# Altium schematic symbol library EASY-EAI-Nano-TB V1.01_1.SCHLIB: 123 symbols
Pins are listed as number, name and electrical type; pins without a type are passive.

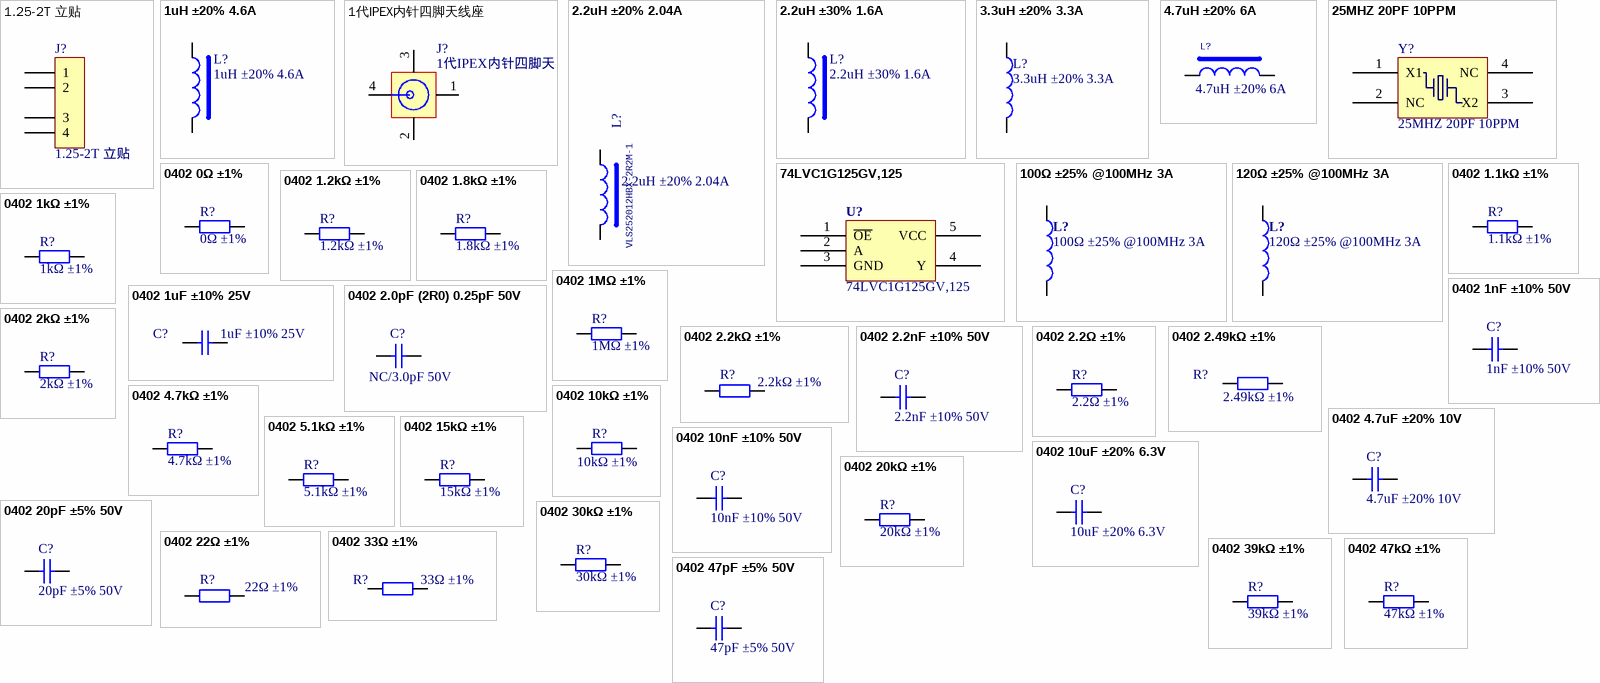
[diagram p0: symbols 1.25-2T 立贴 to 0402 47pF ±5% 50V]

## 1.25-2T 立贴
designator J?, comment 描述: 1.25-2T 立贴  (hidden comment: AFC12-S02CCA-00)
SPZL000112; 名称: 线对板/线对线连接器; 封装: SMD; 厂商: JS(钜硕电子); 工作温度: -20~85℃; 贴片和直插: SMD; SuppliersPartNumber: C466544; 型号: AFC12-S02CCA-00; 商品编号: SPZL000112
footprint 1.25-2T_SMD_L
pins: 1, 2, 3, 4

## 1uH ±20% 4.6A
designator L?, comment 描述: 1uH ±20% 4.6A  (hidden comment: WPN252010U1R0MT)
SPZL000872; 名称: 电感; 厂商: Sunlord(顺络); 封装: 1008; 贴片和直插: SMD; 工作温度: -40~125℃; 型号: WPN252010U1R0MT; SuppliersPartNumber: C279952; 商品编号: SPZL000872
footprint 1008
pins: 1, 2

## 1代IPEX内针四脚天线座
designator J?, comment 描述: 1代IPEX内针四脚天线座  (hidden comment: KH-IPEX-K501-29)
SPZL001156; 名称: RF连接器; 贴片和直插: SMD; 厂商: kinghelm(金航标); 封装: SMD; SuppliersPartNumber: C411563; 型号: KH-IPEX-K501-29; 商品编号: SPZL001156; 工作温度: *
footprint ANT-SMD_KH-IPEX-K501-29
pins: 1, 2, 3, 4

## 2.2uH ±20% 2.04A
designator L?, comment VLS252012HBX-2R2M-1  描述: 2.2uH ±20% 2.04A
SPZL000205; 名称: 电感; 厂商: TDK; 封装: 1008; 贴片和直插: SMD; 工作温度: -40~105℃; 型号: VLS252012HBX-2R2M-1; SuppliersPartNumber: C88535; 商品编号: SPZL000205
footprint IND_252012
pins: 1, 2

## 2.2uH ±30% 1.6A
designator L?, comment 描述: 2.2uH ±30% 1.6A  (hidden comment: SWPA3015S2R2NT)
SPZL000721; 名称: 电感; 厂商: Sunlord(顺络); 封装: SMD; 工作温度: -40~125℃; 型号: SWPA3015S2R2NT; SuppliersPartNumber: C19734; 贴片和直插: SMD; 商品编号: SPZL000721
footprint IND-SMD_L3.0-W3.0
pins: 1, 2

## 3.3uH ±20% 3.3A
designator L?, comment 描述: 3.3uH ±20% 3.3A  (hidden comment: SMNR4030-3R3MT)
SPZL000206; 名称: 电感; 封装: 4.0*4.0*3.0mm; 贴片和直插: SMD; 厂商: SXN(顺翔诺); 工作温度: -40~125℃; SuppliersPartNumber: C135269; 型号: SMNR4030-3R3MT; 商品编号: SPZL000206
footprint IND-4.0*4.0*3.0
pins: 1, 2
2 alternate drawings of the same symbol

## 4.7uH ±20% 6A
designator L?, comment 描述: 4.7uH ±20% 6A  (hidden comment: MWSA0603S-4R7MT)
SPZL001133; 厂商: Sunlord(顺络); 贴片和直插: SMD; 名称: 电感; 封装: SMD,7x6.6mm; 工作温度: -40~125℃; SuppliersPartNumber: C408447; 型号: MWSA0603S-4R7MT; 商品编号: SPZL001133
footprint IND-SMD_L7.0-W6.6 (JLC)
pins: 1, 2

## 25MHZ 20PF 10PPM
designator Y?, comment 描述: 25MHZ 20PF 10PPM  (hidden comment: X322525MSB4SI)
SPZL000475; 封装: SMD3225-4P; 厂商: YXC扬兴科技; 贴片和直插: SMD; 名称: 无源晶振; 工作温度: -40~85℃; SuppliersPartNumber: C13740; 型号: X322525MSB4SI; 商品编号: SPZL000475
footprint SMD-3225_4P
pins: 1 X1, 2 NC, 3 X2, 4 NC

## 74LVC1G125GV,125
designator U?
SPZL000608; 名称: IC; 封装: SOT-753; 厂商: Nexperia(安世); 贴片和直插: SMD; 描述: 缓冲器; 工作温度: -40~85℃; SuppliersPartNumber: C12518; 商品编号: SPZL000608; 型号: 74LVC1G125GV,125
footprint SOT-23-5
pins: 1 ~{OE}, 2 A, 3 GND (power), 4 Y, 5 VCC
2 alternate drawings of the same symbol

## 100Ω ±25% @100MHz 3A
designator L?, comment 描述: 100Ω ±25% @100MHz 3A  (hidden comment: MPZ1608S101ATAH0)
SPZL000753; 名称: 磁珠; 封装: 0603; 厂商: TDK; 贴片和直插: SMD; 工作温度: -40~85℃; SuppliersPartNumber: C107332; 型号: MPZ1608S101ATAH0; 商品编号: SPZL000753
footprint 0603_R
pins: 1, 2
2 alternate drawings of the same symbol

## 120Ω ±25% @100MHz 3A
designator L?, comment 描述: 120Ω ±25% @100MHz 3A  (hidden comment: BLM18KG121TN1D)
SPZL000842; 名称: 磁珠; 封装: 0603; 厂商: muRata(村田); 贴片和直插: SMD; 工作温度: -40~85℃; SuppliersPartNumber: C85831; 型号: BLM18KG121TN1D; 商品编号: SPZL000842
footprint 0603_R
pins: 1, 2
2 alternate drawings of the same symbol

## 0402 0Ω ±1%
designator R?, comment 描述: 0Ω ±1%  (hidden comment: 0402WGF0000TCE)
SPZL000276; 封装: 0402; 厂商: UNI-ROYAL(厚声); 贴片和直插: SMD; 名称: 电阻; 工作温度: -55~125℃; SuppliersPartNumber: C17168; 型号: 0402WGF0000TCE; 商品编号: SPZL000276
footprint 0402_R
pins: 1, 2

## 0402 1.1kΩ ±1%
designator R?, comment 描述: 1.1kΩ ±1%  (hidden comment: AC0402FR-071K1L)
SPZL000324; 封装: 0402; 厂商: YAGEO(国巨); 贴片和直插: SMD; 名称: 电阻; 工作温度: -55~125℃; SuppliersPartNumber: C226844; 型号: AC0402FR-071K1L; 商品编号: SPZL000324
footprint 0402_R
pins: 1, 2

## 0402 1.2kΩ ±1%
designator R?, comment 描述: 1.2kΩ ±1%  (hidden comment: AC0402FR-071K2L)
SPZL000328; 封装: 0402; 厂商: YAGEO(国巨); 贴片和直插: SMD; 名称: 电阻; 工作温度: -55~125℃; SuppliersPartNumber: C144793; 型号: AC0402FR-071K2L; 商品编号: SPZL000328
footprint 0402_R
pins: 1, 2

## 0402 1.8kΩ ±1%
designator R?, comment 描述: 1.8kΩ ±1%  (hidden comment: 0402WGF1801TCE)
SPZL000899; 封装: 0402; 厂商: UNI-ROYAL(厚声); 贴片和直插: SMD; 名称: 电阻; 工作温度: -55~155℃; SuppliersPartNumber: C25871; 型号: 0402WGF1801TCE; 商品编号: SPZL000899
footprint 0402_R
pins: 1, 2

## 0402 1kΩ ±1%
designator R?, comment 描述: 1kΩ ±1%  (hidden comment: 0402WGF1001TCE)
SPZL000275; 封装: 0402; 厂商: UNI-ROYAL(厚声); 贴片和直插: SMD; 名称: 电阻; 工作温度: -55~125℃; SuppliersPartNumber: C11702; 型号: 0402WGF1001TCE; 商品编号: SPZL000275
footprint 0402_R
pins: 1, 2

## 0402 1MΩ ±1%
designator R?, comment 描述: 1MΩ ±1%  (hidden comment: RC-02W1004FT)
SPZL000301; 封装: 0402; 厂商: FH(风华); 贴片和直插: SMD; 名称: 电阻; 工作温度: -55~125℃; SuppliersPartNumber: C310185; 型号: RC-02W1004FT; 商品编号: SPZL000301
footprint 0402_R
pins: 1, 2

## 0402 1nF ±10% 50V
designator C?, comment 描述: 1nF ±10% 50V  (hidden comment: 0402B102K500NT)
SPZL000264; 名称: 贴片电容; 厂商: FH(风华); 封装: 0402; 工作温度: -55~125℃; 贴片和直插: SMD; 型号: 0402B102K500NT; SuppliersPartNumber: C1523; 商品编号: SPZL000264
footprint 0402_C
pins: 1, 2

## 0402 1uF ±10% 25V
designator C?, comment 描述: 1uF ±10% 25V  (hidden comment: CL05A105KA5NQNC)
SPZL000337; 名称: 贴片电容; 厂商: SAMSUNG(三星); 封装: 0402; 工作温度: -55~85℃; 贴片和直插: SMD; 型号: CL05A105KA5NQNC; SuppliersPartNumber: C52923; 商品编号: SPZL000337
footprint 0402_C
pins: 1, 2

## 0402 2.0pF (2R0) 0.25pF 50V
designator C?, comment NC/3.0pF 50V  (no BOM)
贴片电容; ComponentLink1Description: 供应商链接; ComponentLink1URL: http://www.szlcsc.com/product/details_1910.html; Package: 0402; Supplier: LC
footprint 0402_C
pins: 1, 2

## 0402 2.2kΩ ±1%
designator R?, comment 描述: 2.2kΩ ±1%  (hidden comment: AC0402FR-072K2L)
SPZL000307; 封装: 0402; 厂商: YAGEO(国巨); 贴片和直插: SMD; 名称: 电阻; 工作温度: -55~155℃; SuppliersPartNumber: C144773; 型号: AC0402FR-072K2L; 商品编号: SPZL000307
footprint 0402_R
pins: 1, 2

## 0402 2.2nF ±10% 50V
designator C?, comment 描述: 2.2nF ±10% 50V  (hidden comment: 0402B222K500NT)
SPZL000399; 名称: 贴片电容; 厂商: FH(风华); 封装: 0402; 工作温度: -55~125℃; 贴片和直插: SMD; 型号: 0402B222K500NT; SuppliersPartNumber: C1531; 商品编号: SPZL000399
footprint 0402_C
pins: 1, 2

## 0402 2.2Ω ±1%
designator R?, comment 描述: 2.2Ω ±1%  (hidden comment: 0402WGF220KTCE)
SPZL000327; 封装: 0402; 厂商: UNI-ROYAL(厚声); 贴片和直插: SMD; 名称: 电阻; 工作温度: -55~155℃; SuppliersPartNumber: C25101; 型号: 0402WGF220KTCE; 商品编号: SPZL000327
footprint 0402_R
pins: 1, 2

## 0402 2.49kΩ ±1%
designator R?, comment 描述: 2.49kΩ ±1%  (hidden comment: AC0402FR-072K49L)
SPZL000354; 封装: 0402; 厂商: YAGEO(国巨); 贴片和直插: SMD; 名称: 电阻; 工作温度: -55~155℃; SuppliersPartNumber: C226959; 型号: AC0402FR-072K49L; 商品编号: SPZL000354
footprint 0402_R
pins: 1, 2

## 0402 2kΩ ±1%
designator R?, comment 描述: 2kΩ ±1%  (hidden comment: NC/0402WGF2001TCE)  (no BOM)
封装: 0402; 厂商: UNI-ROYAL(厚声); 贴片和直插: SMD; 名称: 电阻; 工作温度: -55~155℃; SuppliersPartNumber: C4109; 型号: 0402WGF2001TCE
footprint 0402_R
pins: 1, 2

## 0402 4.7kΩ ±1%
designator R?, comment 描述: 4.7kΩ ±1%  (hidden comment: 0402WGF4701TCE)
SPZL000280; 封装: 0402; 厂商: UNI-ROYAL(厚声); 贴片和直插: SMD; 名称: 电阻; 工作温度: -55~155℃; SuppliersPartNumber: C25900; 型号: 0402WGF4701TCE; 商品编号: SPZL000280
footprint 0402_R
pins: 1, 2

## 0402 4.7uF ±20% 10V
designator C?, comment 描述: 4.7uF ±20% 10V  (hidden comment: CL05A475MP5NRNC)
SPZL000339; 名称: 贴片电容; 厂商: SAMSUNG(三星); 封装: 0402; 工作温度: -55~85℃; 贴片和直插: SMD; 型号: CL05A475MP5NRNC; SuppliersPartNumber: C23733; 商品编号: SPZL000339
footprint 0402_C
pins: 1, 2

## 0402 5.1kΩ ±1%
designator R?, comment 描述: 5.1kΩ ±1%  (hidden comment: 0402WGF5101TCE)
SPZL000270; 封装: 0402; 厂商: UNI-ROYAL(厚声); 贴片和直插: SMD; 名称: 电阻; 工作温度: -55~155℃; SuppliersPartNumber: C25905; 型号: 0402WGF5101TCE; 商品编号: SPZL000270
footprint 0402_R
pins: 1, 2

## 0402 10kΩ ±1%
designator R?, comment 描述: 10kΩ ±1%  (hidden comment: 0402WGF1002TCE)
SPZL000271; 封装: 0402; 厂商: UNI-ROYAL(厚声); 贴片和直插: SMD; 名称: 电阻; 工作温度: -55~155℃; SuppliersPartNumber: C25744; 型号: 0402WGF1002TCE; 商品编号: SPZL000271
footprint 0402_R
pins: 1, 2

## 0402 10nF ±10% 50V
designator C?, comment 描述: 10nF ±10% 50V  (hidden comment: CL05B103KB5NNNC)
SPZL000342; 名称: 贴片电容; 厂商: SAMSUNG(三星); 封装: 0402; 工作温度: -55~125℃; 贴片和直插: SMD; 型号: CL05B103KB5NNNC; SuppliersPartNumber: C15195; 商品编号: SPZL000342
footprint 0402_C
pins: 1, 2

## 0402 10uF ±20% 6.3V
designator C?, comment 描述: 10uF ±20% 6.3V  (hidden comment: CL05A106MQ5NUNC)
SPZL000269; 名称: 贴片电容; 厂商: SAMSUNG(三星); 封装: 0402; 工作温度: -55~85℃; 贴片和直插: SMD; 型号: CL05A106MQ5NUNC; SuppliersPartNumber: C15525; 商品编号: SPZL000269
footprint 0402_C
pins: 1, 2

## 0402 15kΩ ±1%
designator R?, comment 描述: 15kΩ ±1%  (hidden comment: 0402WGF1502TCE)
SPZL000330; 封装: 0402; 厂商: UNI-ROYAL(厚声); 贴片和直插: SMD; 名称: 电阻; 工作温度: -55~155℃; SuppliersPartNumber: C25756; 型号: 0402WGF1502TCE; 商品编号: SPZL000330
footprint 0402_R
pins: 1, 2

## 0402 20kΩ ±1%
designator R?, comment 描述: 20kΩ ±1%  (hidden comment: 0402WGF2002TCE)
SPZL000349; 封装: 0402; 厂商: UNI-ROYAL(厚声); 贴片和直插: SMD; 名称: 电阻; 工作温度: -55~155℃; SuppliersPartNumber: C25765; 型号: 0402WGF2002TCE; 商品编号: SPZL000349
footprint 0402_R
pins: 1, 2

## 0402 20pF ±5% 50V
designator C?, comment 描述: 20pF ±5% 50V  (hidden comment: 0402CG200J500NT)
SPZL000398; 名称: 贴片电容; 厂商: FH(风华); 封装: 0402; 工作温度: -55~125℃; 贴片和直插: SMD; 型号: 0402CG200J500NT; SuppliersPartNumber: C1554; 商品编号: SPZL000398
footprint 0402_C
pins: 1, 2

## 0402 22Ω ±1%
designator R?, comment 描述: 22Ω ±1%  (hidden comment: 0402WGF220JTCE)
SPZL000279; 封装: 0402; 厂商: UNI-ROYAL(厚声); 贴片和直插: SMD; 名称: 电阻; 工作温度: -55~155℃; SuppliersPartNumber: C25092; 型号: 0402WGF220JTCE; 商品编号: SPZL000279
footprint 0402_R
pins: 1, 2

## 0402 30kΩ ±1%
designator R?, comment 描述: 30kΩ ±1%  (hidden comment: NQ02WGF3002TCE)
SPZL000323; 封装: 0402; 厂商: UNI-ROYAL(厚声); 贴片和直插: SMD; 名称: 电阻; 工作温度: -55~155℃; SuppliersPartNumber: C965267; 型号: NQ02WGF3002TCE; 商品编号: SPZL000323
footprint 0402_R
pins: 1, 2

## 0402 33Ω ±1%
designator R?, comment 描述: 33Ω ±1%  (hidden comment: RC-02W33R0FT)
SPZL000302; 封装: 0402; 厂商: FH(风华); 贴片和直插: SMD; 名称: 电阻; 工作温度: -55~155℃; SuppliersPartNumber: C140161; 型号: RC-02W33R0FT; 商品编号: SPZL000302
footprint 0402_R
pins: 1, 2

## 0402 39kΩ ±1%
designator R?, comment 描述: 39kΩ ±1%  (hidden comment: RC0402FR-0739KL)
SPZL001271; 封装: 0402; 厂商: YAGEO(国巨); 贴片和直插: SMD; 名称: 电阻; 工作温度: -55~155℃; SuppliersPartNumber: C137995; 型号: RC0402FR-0739KL; 商品编号: SPZL001271
footprint 0402_R
pins: 1, 2

## 0402 47kΩ ±1%
designator R?, comment 描述: 47kΩ ±1%  (hidden comment: 0402WGF4702TCE)
SPZL000348; 封装: 0402; 厂商: UNI-ROYAL(厚声); 贴片和直插: SMD; 名称: 电阻; 工作温度: -55~155℃; SuppliersPartNumber: C25792; 型号: 0402WGF4702TCE; 商品编号: SPZL000348
footprint 0402_R
pins: 1, 2

## 0402 47pF ±5% 50V
designator C?, comment 描述: 47pF ±5% 50V  (hidden comment: NC/0402CG470J500NT)
SPZL000882; 名称: 贴片电容; 厂商: FH(风华); 封装: 0402; 工作温度: -55~125℃; 贴片和直插: SMD; 型号: 0402CG470J500NT; SuppliersPartNumber: C1567; 商品编号: SPZL000882
footprint 0402_C
pins: 1, 2

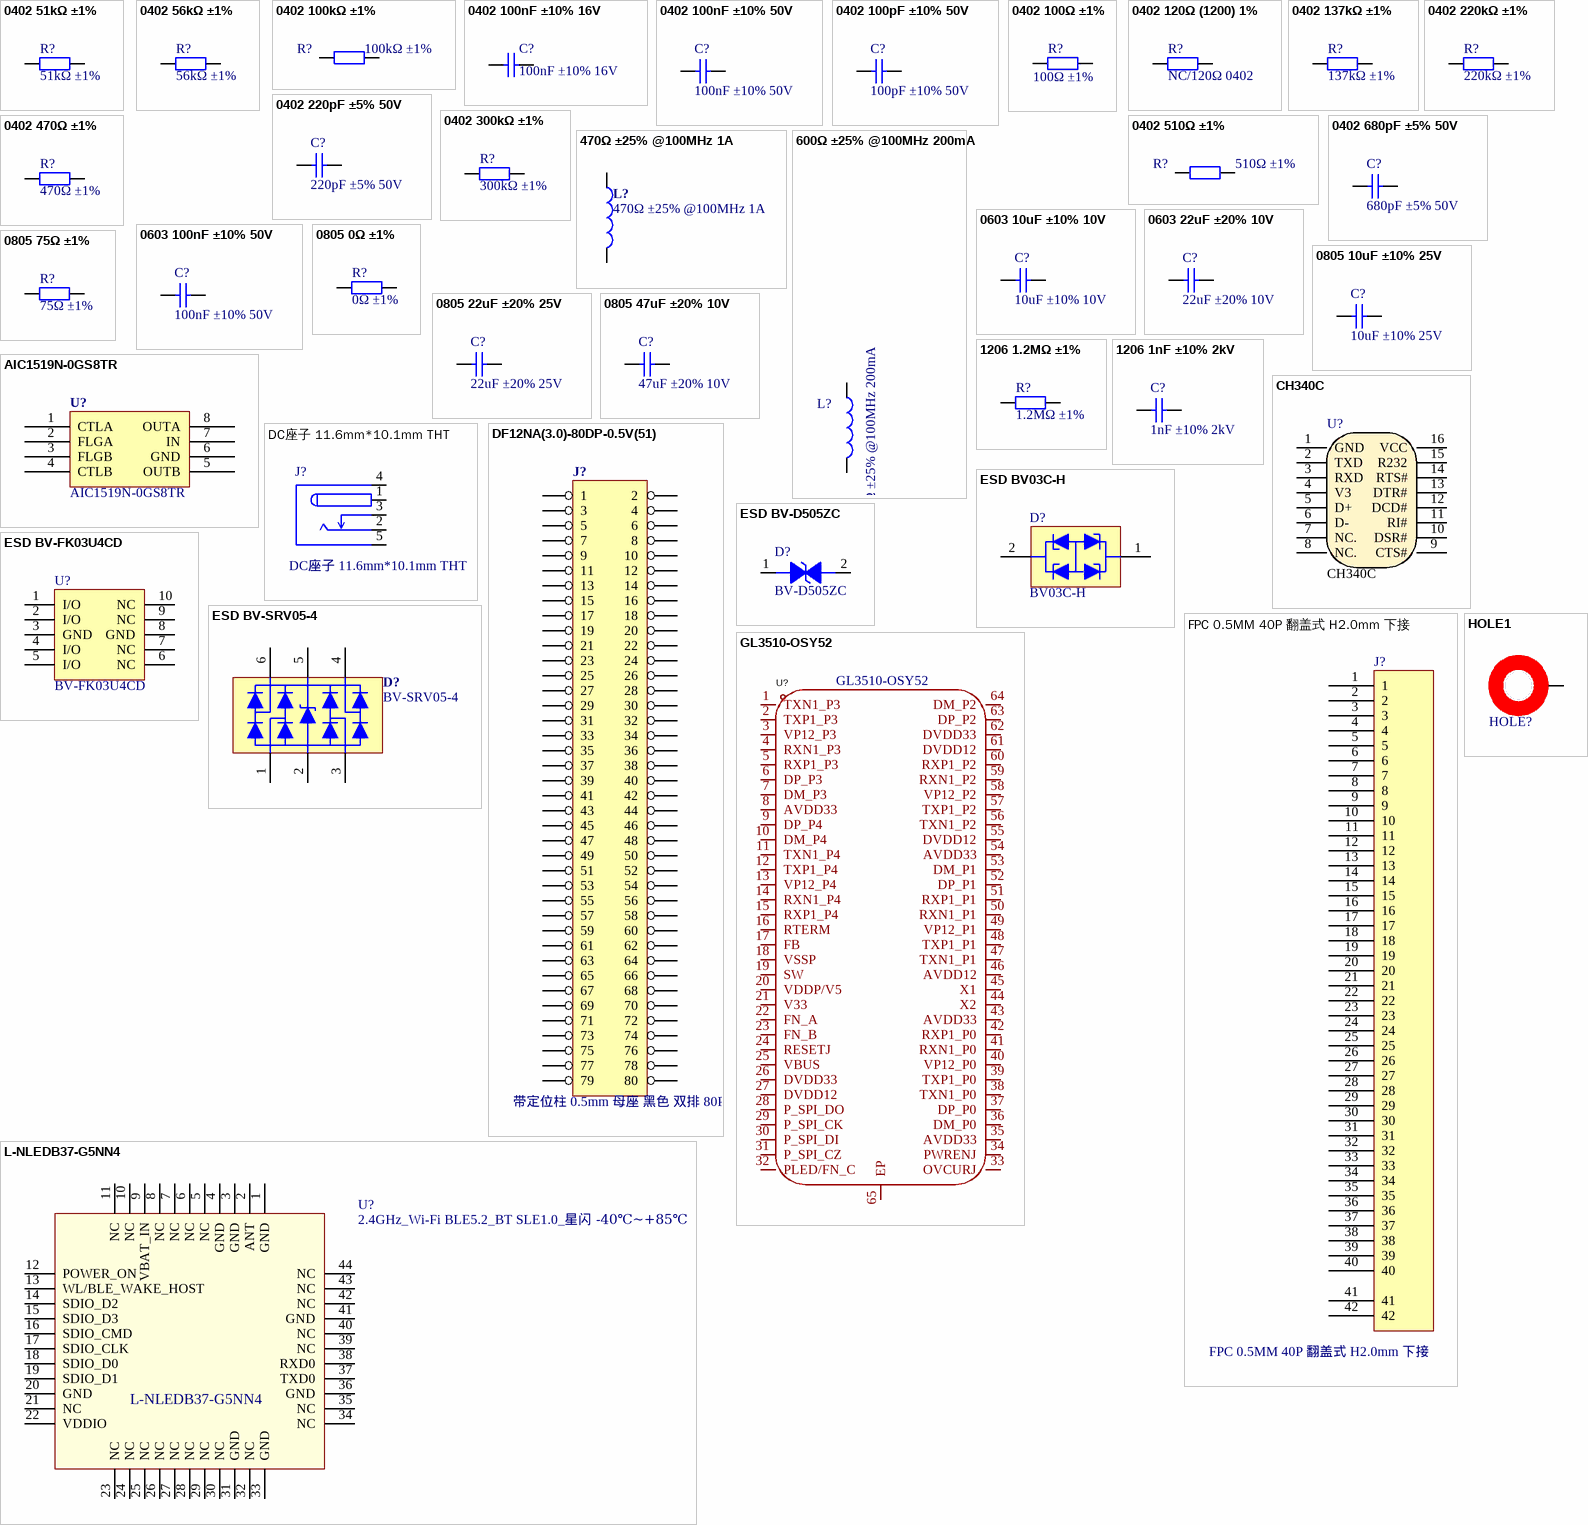
[diagram p1: symbols 0402 51kΩ ±1% to L-NLEDB37-G5NN4]

## 0402 51kΩ ±1%
designator R?, comment 描述: 51kΩ ±1%  (hidden comment: 0402WGF5102TCE)
SPZL000788; 封装: 0402; 厂商: UNI-ROYAL(厚声); 贴片和直插: SMD; 名称: 电阻; 工作温度: -55~155℃; SuppliersPartNumber: C25794; 型号: 0402WGF5102TCE; 商品编号: SPZL000788
footprint 0402_R
pins: 1, 2

## 0402 56kΩ ±1%
designator R?, comment 描述: 56kΩ ±1%  (hidden comment: 0402WGF5602TCE)
SPZL000395; 封装: 0402; 厂商: UNI-ROYAL(厚声); 贴片和直插: SMD; 名称: 电阻; 工作温度: -55~155℃; SuppliersPartNumber: C25796; 型号: 0402WGF5602TCE; 商品编号: SPZL000395
footprint 0402_R
pins: 1, 2

## 0402 100kΩ ±1%
designator R?, comment 描述: 100kΩ ±1%  (hidden comment: 0402WGF1003TCE)
SPZL000282; 封装: 0402; 厂商: UNI-ROYAL(厚声); 贴片和直插: SMD; 名称: 电阻; 工作温度: -55~155℃; SuppliersPartNumber: C25741; 型号: 0402WGF1003TCE; 商品编号: SPZL000282
footprint 0402_R
pins: 1, 2

## 0402 100nF ±10% 16V
designator C?, comment 描述: 100nF ±10% 16V  (hidden comment: CL05B104KO5NNNC)
SPZL000259; 名称: 贴片电容; 厂商: SAMSUNG(三星); 封装: 0402; 工作温度: -55~125℃; 贴片和直插: SMD; 型号: CL05B104KO5NNNC; SuppliersPartNumber: C1525; 商品编号: SPZL000259
footprint 0402_C
pins: 1, 2

## 0402 100nF ±10% 50V
designator C?, comment 描述: 100nF ±10% 50V  (hidden comment: GRM155R71H104KE14D)
SPZL001162; 名称: 贴片电容; 厂商: muRata(村田); 封装: 0402; 工作温度: -55~125℃; 贴片和直插: SMD; 型号: GRM155R71H104KE14D; SuppliersPartNumber: C77020; 商品编号: SPZL001162
footprint 0402_C
pins: 1, 2

## 0402 100pF ±10% 50V
designator C?, comment 描述: 100pF ±10% 50V  (hidden comment: CC0402KRX7R9BB101)
SPZL000312; 名称: 贴片电容; 厂商: YAGEO(国巨); 封装: 0402; 工作温度: -55~125℃; 贴片和直插: SMD; 型号: CC0402KRX7R9BB101; SuppliersPartNumber: C281751; 商品编号: SPZL000312
footprint 0402_C
pins: 1, 2

## 0402 100Ω ±1%
designator R?, comment 描述: 100Ω ±1%  (hidden comment: 0402WGF1000TCE)
SPZL000281; 封装: 0402; 厂商: UNI-ROYAL(厚声); 贴片和直插: SMD; 名称: 电阻; 工作温度: -55~155℃; SuppliersPartNumber: C25076; 型号: 0402WGF1000TCE; 商品编号: SPZL000281
footprint 0402_R
pins: 1, 2

## 0402 120Ω (1200) 1%
designator R?, comment NC/120Ω 0402  (no BOM)
贴片电阻; ComponentLink1Description: 供应商链接; ComponentLink1URL: http://www.szlcsc.com/product/details_25822.html; Package: 0402; Supplier: LC; SuppliersPartNumber: C25079
footprint 0402_R
pins: 1, 2

## 0402 137kΩ ±1%
designator R?, comment 描述: 137kΩ ±1%  (hidden comment: 0402WGF1373TCE)
SPZL000322; 封装: 0402; 厂商: UNI-ROYAL(厚声); 贴片和直插: SMD; 名称: 电阻; 工作温度: -55~155℃; SuppliersPartNumber: C32298; 型号: 0402WGF1373TCE; 商品编号: SPZL000322
footprint 0402_R
pins: 1, 2

## 0402 220kΩ ±1%
designator R?, comment 描述: 220kΩ ±1%  (hidden comment: 0402WGF2203TCE)
SPZL000877; 封装: 0402; 厂商: UNI-ROYAL(厚声); 贴片和直插: SMD; 名称: 电阻; 工作温度: -55~125℃; SuppliersPartNumber: C25767; 型号: 0402WGF2203TCE; 商品编号: SPZL000877
footprint 0402_R
pins: 1, 2

## 0402 220pF ±5% 50V
designator C?, comment 描述: 220pF ±5% 50V  (hidden comment: GCM1555G1H221JA16D)
SPZL000318; 名称: 贴片电容; 厂商: muRata(村田); 封装: 0402; 工作温度: -55~150℃; 贴片和直插: SMD; 型号: GCM1555G1H221JA16D; SuppliersPartNumber: C1517776; 商品编号: SPZL000318
footprint 0402_C
pins: 1, 2

## 0402 300kΩ ±1%
designator R?, comment 描述: 300kΩ ±1%  (hidden comment: 0402WGF3003TCE)
SPZL000393; 封装: 0402; 厂商: UNI-ROYAL(厚声); 贴片和直插: SMD; 名称: 电阻; 工作温度: -55~155℃; SuppliersPartNumber: C25774; 型号: 0402WGF3003TCE; 商品编号: SPZL000393
footprint 0402_R
pins: 1, 2

## 0402 470Ω ±1%
designator R?, comment 描述: 470Ω ±1%  (hidden comment: AC0402FR-07470RL)
SPZL000329; 封装: 0402; 厂商: YAGEO(国巨); 贴片和直插: SMD; 名称: 电阻; 工作温度: -55~155℃; SuppliersPartNumber: C227095; 型号: AC0402FR-07470RL; 商品编号: SPZL000329
footprint 0402_R
pins: 1, 2

## 0402 510Ω ±1%
designator R?, comment 描述: 510Ω ±1%  (hidden comment: 0402WGF5100TCE)
SPZL000335; 封装: 0402; 厂商: UNI-ROYAL(厚声); 贴片和直插: SMD; 名称: 电阻; 工作温度: -55~155℃; SuppliersPartNumber: C25123; 型号: 0402WGF5100TCE; 商品编号: SPZL000335
footprint 0402_R
pins: 1, 2

## 0402 680pF ±5% 50V
designator C?, comment 描述: 680pF ±5% 50V  (hidden comment: CL05C681JB5NNNC)
SPZL000317; 名称: 贴片电容; 厂商: SAMSUNG(三星); 封装: 0402; 工作温度: -55~125℃; 贴片和直插: SMD; 型号: CL05C681JB5NNNC; SuppliersPartNumber: C307451; 商品编号: SPZL000317
footprint 0402_C
pins: 1, 2

## 470Ω ±25% @100MHz 1A
designator L?, comment 描述: 470Ω ±25% @100MHz 1A  (hidden comment: PZ1608U471-1R0TF)
SPZL000054; 名称: 磁珠; 封装: 0603; 厂商: Sunlord(顺络); 贴片和直插: SMD; 工作温度: -55~125℃; SuppliersPartNumber: C42103; 型号: PZ1608U471-1R0TF; 商品编号: SPZL000054
footprint 0603_R
pins: 1, 2
2 alternate drawings of the same symbol

## 600Ω ±25% @100MHz 200mA
designator L?, comment 描述: 600Ω ±25% @100MHz 200mA  (hidden comment: CBW100505U601T)  (no BOM)
SPZL000058; 名称: 磁珠; 封装: 0402; 厂商: FH(风华); 贴片和直插: SMD; 工作温度: -40~85℃; SuppliersPartNumber: C124083; 型号: CBW100505U601T; 商品编号: SPZL000058
footprint 0402_R
pins: 1, 2
2 alternate drawings of the same symbol

## 0603 10uF ±10% 10V
designator C?, comment 描述: 10uF ±10% 10V  (hidden comment: CL10A106KP8NNNC)
SPZL000260; 名称: 贴片电容; 厂商: SAMSUNG(三星); 封装: 0603; 工作温度: -55~85℃; 贴片和直插: SMD; 型号: CL10A106KP8NNNC; SuppliersPartNumber: C19702; 商品编号: SPZL000260
footprint 0603_C
pins: 1, 2

## 0603 22uF ±20% 10V
designator C?, comment 描述: 22uF ±20% 10V  (hidden comment: CL10A226MP8NUNE)
SPZL000315; 名称: 贴片电容; 厂商: SAMSUNG(三星); 封装: 0603; 工作温度: -55~85℃; 贴片和直插: SMD; 型号: CL10A226MP8NUNE; SuppliersPartNumber: C86295; 商品编号: SPZL000315
footprint 0603_C
pins: 1, 2

## 0603 100nF ±10% 50V
designator C?, comment 描述: 100nF ±10% 50V  (hidden comment: CC0603KRX7R9BB104)
SPZL000386; 名称: 贴片电容; 厂商: YAGEO(国巨); 封装: 0603; 工作温度: -55~125℃; 贴片和直插: SMD; 型号: CC0603KRX7R9BB104; SuppliersPartNumber: C14663; 商品编号: SPZL000386
footprint 0603_C
pins: 1, 2

## 0805 0Ω ±1%
designator R?, comment 描述: 0Ω ±1%  (hidden comment: 0805W8F0000T5E)  (no BOM)
SPZL000350; 封装: 0805; 厂商: UNI-ROYAL(厚声); 名称: 电阻; 贴片和直插: SMD; 工作温度: -55~155℃; SuppliersPartNumber: C17477; 型号: 0805W8F0000T5E; 商品编号: SPZL000350
footprint 0805_R
pins: 1, 2

## 0805 10uF ±10% 25V
designator C?, comment 描述: 10uF ±10% 25V  (hidden comment: GRM21BR61E106KA73L)
SPZL000262; 名称: 贴片电容; 厂商: muRata(村田); 封装: 0805; 工作温度: -55~85℃; 贴片和直插: SMD; 型号: GRM21BR61E106KA73L; SuppliersPartNumber: C84416; 商品编号: SPZL000262
footprint 0805_C
pins: 1, 2

## 0805 22uF ±20% 25V
designator C?, comment 描述: 22uF ±20% 25V  (hidden comment: GRM21BR61E226ME44L)
SPZL000267; 名称: 贴片电容; 厂商: muRata(村田); 封装: 0805; 工作温度: -55~85℃; 贴片和直插: SMD; 型号: GRM21BR61E226ME44L; SuppliersPartNumber: C86816; 商品编号: SPZL000267
footprint 0805_C
pins: 1, 2

## 0805 47uF ±20% 10V
designator C?, comment 描述: 47uF ±20% 10V  (hidden comment: C2012X5R1A476MTJ00E)
SPZL001333; 名称: 贴片电容; 厂商: TDK; 封装: 0805; 工作温度: -55~85℃; 贴片和直插: SMD; 型号: C2012X5R1A476MTJ00E; SuppliersPartNumber: C76636; 商品编号: SPZL001333
footprint 0805_C
pins: 1, 2

## 0805 75Ω ±1%
designator R?, comment 描述: 75Ω ±1%  (hidden comment: RS-05K75R0FT)
SPZL000353; 封装: 0805; 厂商: FH(风华); 名称: 电阻; 贴片和直插: SMD; 工作温度: -55~155℃; SuppliersPartNumber: C139842; 型号: RS-05K75R0FT; 商品编号: SPZL000353
footprint 0805_R
pins: 1, 2

## 1206 1.2MΩ ±1%
designator R?, comment 描述: 1.2MΩ ±1%  (hidden comment: 1206W4F1204T5E)
SPZL000388; 封装: 1206; 厂商: UNI-ROYAL(厚声); 名称: 电阻; 贴片和直插: SMD; 工作温度: -55~155℃; SuppliersPartNumber: C22107; 型号: 1206W4F1204T5E; 商品编号: SPZL000388
footprint 1206_R
pins: 1, 2

## 1206 1nF ±10% 2kV
designator C?, comment 描述: 1nF ±10% 2kV  (hidden comment: CC1206KKX7RDBB102)
SPZL000332; 名称: 贴片电容; 厂商: YAGEO(国巨); 封装: 1206; 工作温度: -55~125℃; 贴片和直插: SMD; 型号: CC1206KKX7RDBB102; SuppliersPartNumber: C23631; 商品编号: SPZL000332
footprint 1206_C
pins: 1, 2

## AIC1519N-0GS8TR
designator U?
SPZL001272; 名称: IC; 封装: SOP-8; 厂商: AIC(沛亨半导体); 贴片和直插: SMD; 描述: 双USB电源开关; 工作温度: -40℃~+85℃; SuppliersPartNumber: C211637; 商品编号: SPZL001272; 型号: AIC1519N-0GS8TR
footprint SOP-8
pins: 1 CTLA, 2 FLGA, 3 FLGB (power), 4 CTLB, 5 OUTB, 6 GND, 7 IN, 8 OUTA
2 alternate drawings of the same symbol

## CH340C
designator U?
SPZL000072; 名称: IC; 封装: SOP-16_150mil; 描述: USB/TTL; 厂商: WCH(南京沁恒); 贴片和直插: SMD; 工作温度: -20~70℃; 商品编号: SPZL000072; SuppliersPartNumber: C84681; 型号: CH340C
3D model SOP-16_L9.9-W3.9-H1.5-LS6.0-P1.27
footprint SOIC-16_150mil
pins: 1 GND, 2 TXD, 3 RXD, 4 V3, 5 D+, 6 D-, 7 NC., 8 NC., 9 CTS#, 10 DSR#, 11 RI#, 12 DCD#, 13 DTR#, 14 RTS#, 15 R232, 16 VCC

## DC座子 11.6mm*10.1mm THT
designator J?, comment 描述: DC座子 11.6mm*10.1mm THT  (hidden comment: DC-044A-20A)
SPZL000133; 封装: THT; 厂商: 韩国韩荣; 名称: 电源插座; 工作温度: -20~70℃; 贴片和直插: THT; SuppliersPartNumber: C129006; 型号: DC-044A-20A; 商品编号: SPZL000133
footprint DC-044A-20A
pins: 1 (power), 2 (power), 3 (power), 4 (power), 5 (power)

## DF12NA(3.0)-80DP-0.5V(51)
designator J?  描述: 带定位柱 0.5mm 母座 黑色 双排 80Pin  (hidden comment: DF12NA(3.0)-80DP-0.5V(51))
SPZL000772; 名称: 板对板连接器; 封装: SMD; 厂商: HRS(广濑); 贴片和直插: SMD; SuppliersPartNumber: *; 型号: DF12NA(3.0)-80DP-0.5V(51); 商品编号: SPZL000772; 工作温度: *
footprint CONN-SMD_80P-P0.50_DF12NA-3.0-80DP-0.5V
pins: 1, 2, 3, 4, 5, 6, 7, 8, 9, 10, 11, 12, 13, 14, 15, 16, 17, 18, 19, 20, 21, 22, 23, 24, 25, 26, 27, 28, 29, 30, 31, 32, 33, 34, 35, 36, 37, 38, 39, 40, 41, 42, 43, 44, 45, 46, 47, 48, 49, 50, 51, 52, 53, 54, 55, 56, 57, 58, 59, 60, 61, 62, 63, 64, 65, 66, 67, 68, 69, 70, 71, 72, 73, 74, 75, 76, 77, 78, 79, 80

## ESD BV03C-H
designator D?, comment BV03C-H
SPZL000614; 名称: ESD; 封装: SOD-323; 贴片和直插: SMD; 厂商: Bencent(槟城); 描述: Vdrm=3.3V Cj=1.5pF; 工作温度: -55~150℃; SuppliersPartNumber: C883203; 商品编号: SPZL000614; 型号: BV03C-H
footprint SOD-323
pins: 1, 2

## ESD BV-D505ZC
designator D?, comment BV-D505ZC
SPZL000613; 名称: ESD; 贴片和直插: SMD; 封装: SOD-523; 厂商: Bencent(槟城); 描述: Vdrm=5V Cj=15pF; 工作温度: -40~125℃; SuppliersPartNumber: C459520; 商品编号: SPZL000613; 型号: BV-D505ZC
footprint SOD-523
pins: 1, 2

## ESD BV-FK03U4CD
designator U?  型号: BV-FK03U4CD  (hidden comment: ESD BV-FK03U4CD)
SPZL000610; 封装: UDFN-10; 厂商: Bencent(槟城); 贴片和直插: SMD; 描述: Vdrm=3.3V Cj=0.65pF; 工作温度: -40~125℃; 名称: ESD; 商品编号: SPZL000610
footprint UDFN-10
pins: 1 I/O, 2 I/O, 3 GND, 4 I/O, 5 I/O, 6 NC, 7 NC, 8 GND, 9 NC, 10 NC

## ESD BV-SRV05-4
designator D?, comment BV-SRV05-4
SPZL000615; 名称: ESD; 封装: SOT-23-6; 厂商: Bencent(槟城); 贴片和直插: SMD; 描述: Vdrm=5V Cj=1.8pF; 工作温度: -55~125℃; SuppliersPartNumber: C409437; 商品编号: SPZL000615; 型号: BV-SRV05-4
footprint SOT-23-6
pins: 1, 2, 3, 4, 5, 6

## FPC 0.5MM 40P 翻盖式 H2.0mm 下接
designator J?, comment 描述: FPC 0.5MM 40P 翻盖式 H2.0mm 下接  (hidden comment: AFC01-S40FCA-00)
SPZL000107; 名称: FPC座子; 厂商: JS(钜硕电子); 贴片和直插: SMD; 封装: SMD,P=0.5mm; 工作温度: -25~85℃; SuppliersPartNumber: C262674; 型号: AFC01-S40FCA-00; 商品编号: SPZL000107
footprint FFC0.5-40P
pins: 1, 2, 3, 4, 5, 6, 7, 8, 9, 10, 11, 12, 13, 14, 15, 16, 17, 18, 19, 20, 21, 22, 23, 24, 25, 26, 27, 28, 29, 30, 31, 32, 33, 34, 35, 36, 37, 38, 39, 40, 41, 42

## GL3510-OSY52
designator U?
SPZL001270; 名称: IC; 描述: USB3.1Gen1 Hub芯片; 厂商: GENESYS(创惟); 工作温度: 0~70℃; 封装: QFN64; 贴片和直插: SMD; 型号: GL3510-OSY52; 商品编号: SPZL001270; SuppliersPartNumber: C7501408
footprint QFN-64_L8.0-W8.0-P0.40-BL-EP5.4
pins: 1 TXN1_P3, 2 TXP1_P3, 3 VP12_P3, 4 RXN1_P3, 5 RXP1_P3, 6 DP_P3, 7 DM_P3, 8 AVDD33, 9 DP_P4, 10 DM_P4, 11 TXN1_P4, 12 TXP1_P4, 13 VP12_P4, 14 RXN1_P4, 15 RXP1_P4, 16 RTERM, 17 FB, 18 VSSP, 19 SW, 20 VDDP/V5, 21 V33, 22 FN_A, 23 FN_B, 24 RESETJ, 25 VBUS, 26 DVDD33, 27 DVDD12, 28 P_SPI_DO, 29 P_SPI_CK, 30 P_SPI_DI, 31 P_SPI_CZ, 32 PLED/FN_C, 33 OVCURJ, 34 PWRENJ, 35 AVDD33, 36 DM_P0, 37 DP_P0, 38 TXN1_P0, 39 TXP1_P0, 40 VP12_P0, 41 RXN1_P0, 42 RXP1_P0, 43 AVDD33, 44 X2, 45 X1, 46 AVDD12, 47 TXN1_P1, 48 TXP1_P1, 49 VP12_P1, 50 RXN1_P1, 51 RXP1_P1, 52 DP_P1, 53 DM_P1, 54 AVDD33, 55 DVDD12, 56 TXN1_P2, 57 TXP1_P2, 58 VP12_P2, 59 RXN1_P2, 60 RXP1_P2, 61 DVDD12, 62 DVDD33, 63 DP_P2, 64 DM_P2, 65 EP

## HOLE1
designator HOLE?  (value not drawn)  (no BOM)
footprint HOLE-2.2
footprint HOLE-2.7
footprint HOLE-3.2 - Screw
footprint HOLE-3.8
pins: 1

## L-NLEDB37-G5NN4
designator U?  描述: 2.4GHz_Wi-Fi BLE5.2_BT SLE1.0_星闪 -40℃~+85℃  (hidden comment: L-NLEDB37-G5NN4)
SPZL001091; 名称: IC; 封装: QFN-44(12x12); 贴片和直插: SMD; 厂商: 利尔达; 工作温度: -40℃~+85℃; 型号: L-NLEDB37-G5NN4; 商品编号: SPZL001091
footprint L-NLEDB37-G5NN4_SMT
pins: 1 GND, 2 ANT, 3 GND, 4 GND, 5 NC, 6 NC, 7 NC, 8 NC, 9 VBAT_IN, 10 NC, 11 NC, 12 POWER_ON, 13 WL/BLE_WAKE_HOST, 14 SDIO_D2, 15 SDIO_D3, 16 SDIO_CMD, 17 SDIO_CLK, 18 SDIO_D0, 19 SDIO_D1, 20 GND, 21 NC, 22 VDDIO, 23 NC, 24 NC, 25 NC, 26 NC, 27 NC, 28 NC, 29 NC, 30 NC, 31 GND, 32 NC, 33 GND, 34 NC, 35 NC, 36 GND, 37 TXD0, 38 RXD0, 39 NC, 40 NC, 41 GND, 42 NC, 43 NC, 44 NC

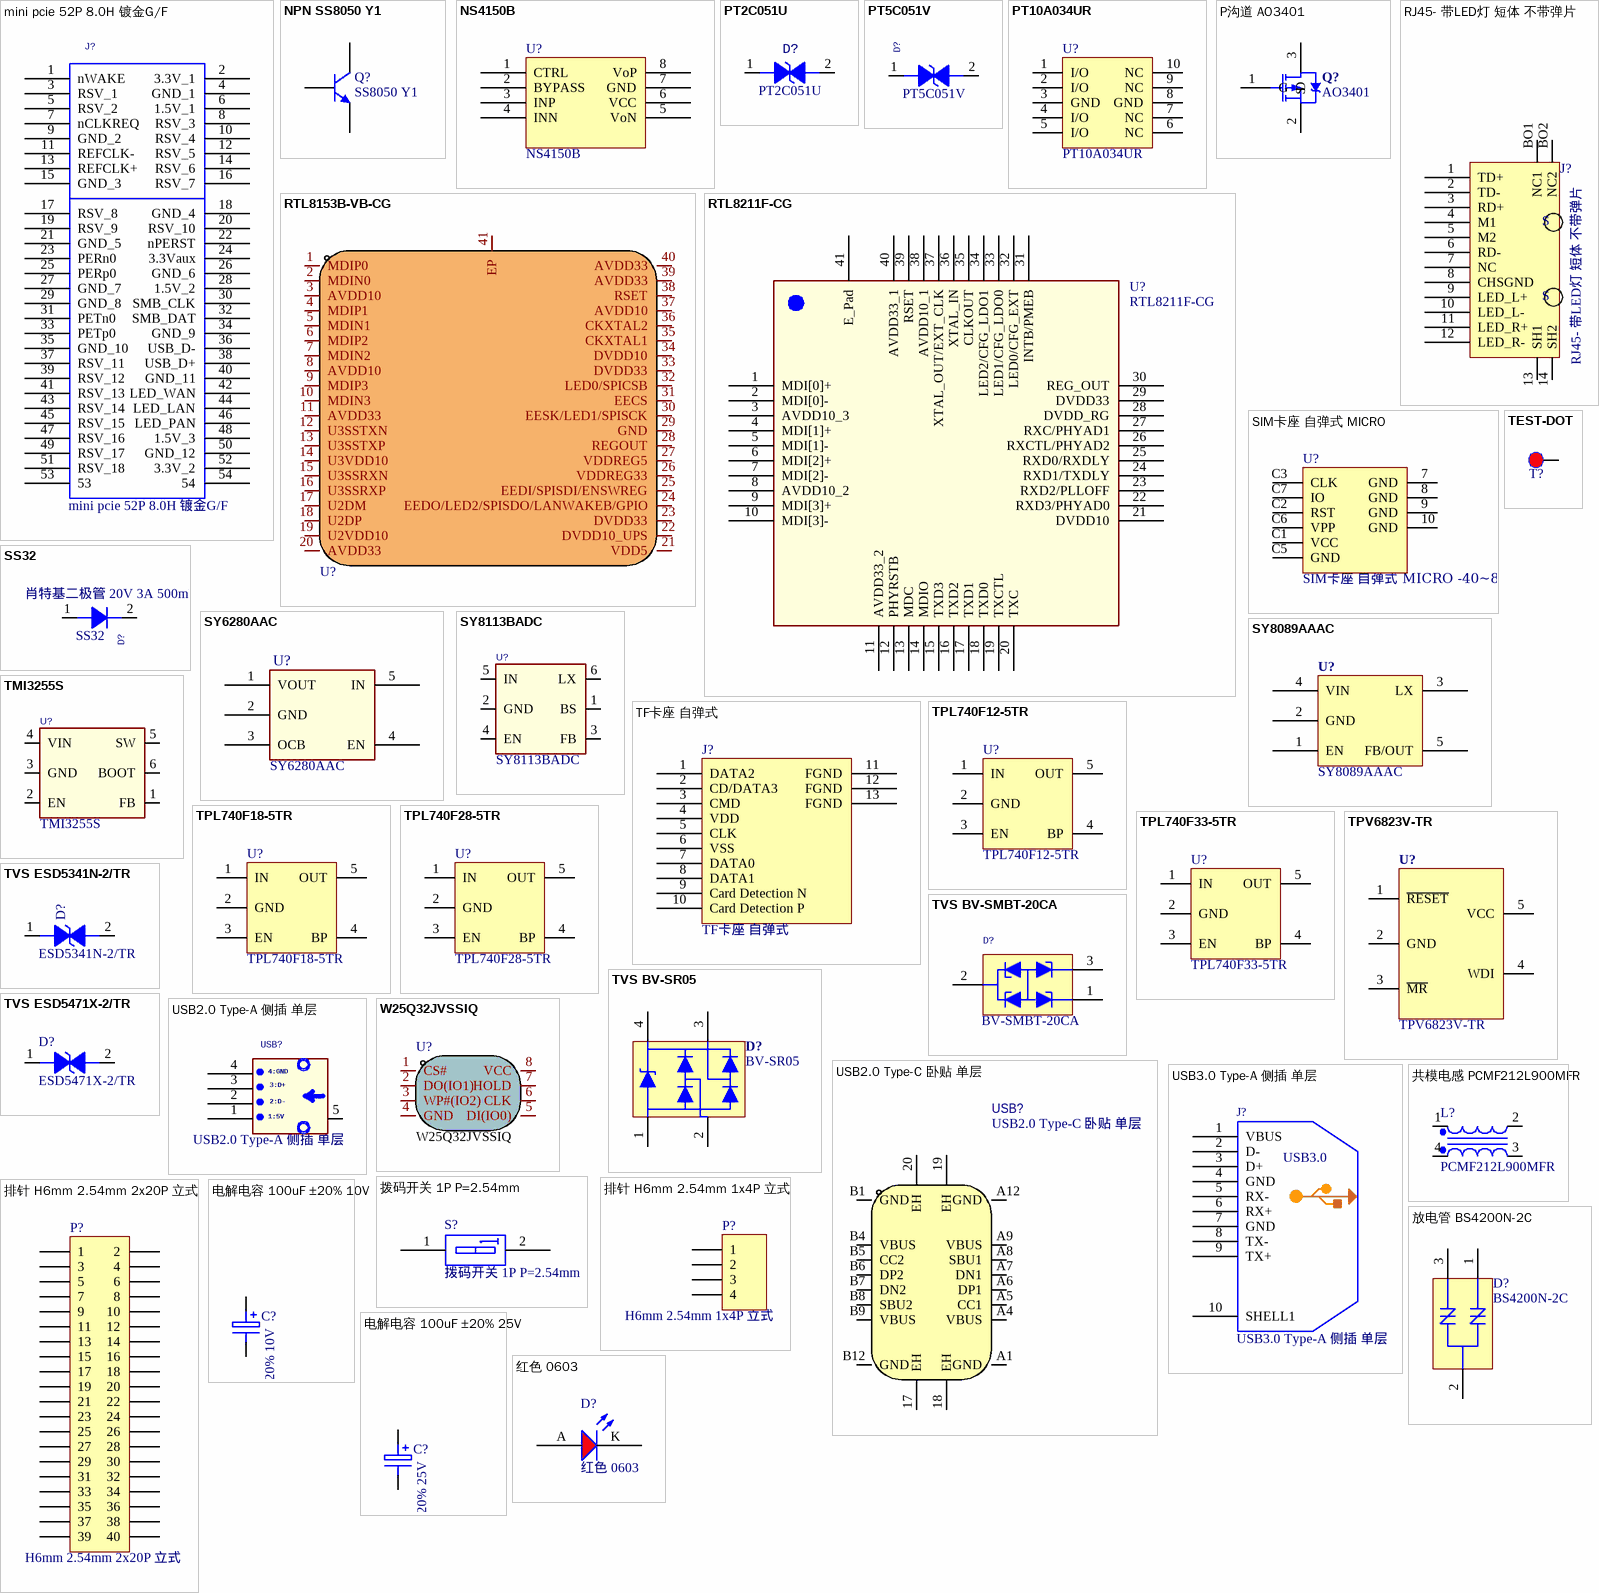
[diagram p2: symbols mini pcie 52P 8.0H 镀金G/F to 红色 0603]

## mini pcie 52P 8.0H 镀金G/F
designator J?, comment 描述: mini pcie 52P 8.0H 镀金G/F  (hidden comment: 91304-80-052R2)
SPZL000136; 名称: MiniPCIe座子; 封装: SMD; 厂商: UMaxconn; 贴片和直插: SMD; SuppliersPartNumber: C404124; 型号: 91304-80-052R2; 商品编号: SPZL000136; 工作温度: *
footprint MEDC52-32F-PCIE-LOCK-S (Footprint not found)
footprint MEDC52-32F-PCIE-LOCK (MiniPCIE带锁。)
footprint MEDC52-32F-PCIE-LOCK-L (长卡)
footprint MEDC52-32F-PCIE-LOCK-WIFI (MiniPCIE带锁，WIFI模块专用。By LMD)
pins: 1 nWAKE, 2 3.3V_1, 3 RSV_1, 4 GND_1, 5 RSV_2, 6 1.5V_1, 7 nCLKREQ, 8 RSV_3, 9 GND_2, 10 RSV_4, 11 REFCLK-, 12 RSV_5, 13 REFCLK+, 14 RSV_6, 15 GND_3, 16 RSV_7, 17 RSV_8, 18 GND_4, 19 RSV_9, 20 RSV_10, 21 GND_5, 22 nPERST, 23 PERn0, 24 3.3Vaux, 25 PERp0, 26 GND_6, 27 GND_7, 28 1.5V_2, 29 GND_8, 30 SMB_CLK, 31 PETn0, 32 SMB_DAT, 33 PETp0, 34 GND_9, 35 GND_10, 36 USB_D-, 37 RSV_11, 38 USB_D+, 39 RSV_12, 40 GND_11, 41 RSV_13, 42 LED_WAN, 43 RSV_14, 44 LED_LAN, 45 RSV_15, 46 LED_PAN, 47 RSV_16, 48 1.5V_3, 49 RSV_17, 50 GND_12, 51 RSV_18, 52 3.3V_2, 53, 54

## NPN SS8050 Y1
designator Q?, comment 型号: SS8050 Y1  (hidden comment: NC/SS8050 Y1)  (no BOM)
封装: SOT-23; 厂商: CJ（江苏长电/长晶）; 名称: 三极管; 贴片和直插: SMD; 描述: NPN 25V 1.5A; 工作温度: -55~150℃; SuppliersPartNumber: C2150
footprint SOT-23(SOT-23-3)
pins: 1 B, 2 E, 3 C

## NS4150B
designator U?
SPZL000086; 名称: IC; 封装: MSOP-8; 厂商: Nsiway(纳芯威); 贴片和直插: SMD; 规格: 3W单声道D类音频功放; 工作温度: -40~85℃; SuppliersPartNumber: C189961; 商品编号: SPZL000086; 型号: NS4150B
footprint MSOP-8
pins: 1 CTRL, 2 BYPASS, 3 INP, 4 INN, 5 VoN, 6 VCC, 7 GND, 8 VoP

## PT2C051U
designator D?
SPZL001147; 名称: ESD; 贴片和直插: SMD; 封装: DFN1006; 厂商: 玛珂斯科技; 描述: Vrwm=5V, Cj=0.3pF; 工作温度: -55~125℃; 商品编号: SPZL001147; 型号: PT2C051U
footprint DFN1006 (Footprint not found)
pins: 1, 2

## PT5C051V
designator D?
SPZL001155; 名称: ESD; 贴片和直插: SMD; 封装: SOD-523; 厂商: 玛珂斯科技; 描述: Vrwm=5V,Vc=25V,Ipp=5A; 工作温度: -55~125℃; 商品编号: SPZL001155; 型号: PT5C051V
footprint SOD-523
pins: 1, 2

## PT10A034UR
designator U?
SPZL001146; 名称: ESD; 封装: DFN2510; 厂商: 玛珂斯科技; 贴片和直插: SMD; 描述: Vrwm=3.3V Cj=0.3pF; 工作温度: -55~125℃; 商品编号: SPZL001146; 型号: PT10A034UR
footprint DFN2510 (Footprint not found)
pins: 1 I/O, 2 I/O, 3 GND, 4 I/O, 5 I/O, 6 NC, 7 NC, 8 GND, 9 NC, 10 NC

## P沟道 AO3401
designator Q?, comment AO3401
SPZL000800; 名称: MOS管; 封装: SOT-23; 厂商: TWGMC(台湾迪嘉); 贴片和直插: SMD; 描述: P沟道 30V 4.2A; 工作温度: -40~105℃; SuppliersPartNumber: C727156; 商品编号: SPZL000800; 型号: AO3401
footprint SOT-23
pins: 1 G, 2 S, 3 D

## RJ45- 带LED灯 短体 不带弹片
designator J?, comment 描述: RJ45- 带LED灯 短体 不带弹片  (hidden comment: R-RJ45R08P-C000)
SPZL000140; 名称: RJ45插座; 贴片和直插: THT; 封装: Through Hole; 厂商: Ckmtw(灿科盟); 工作温度: 0~70℃; SuppliersPartNumber: C386757; 型号: R-RJ45R08P-C000; 商品编号: SPZL000140
footprint RJ45/LED-1575X1626X1310
pins: 1 TD+, 2 TD-, 3 RD+, 4 M1, 5 M2, 6 RD-, 7 NC, 8 CHSGND, 9 LED_L+, 10 LED_L-, 11 LED_R+, 12 LED_R-, 13 SH1, 14 SH2, BO1 NC1, BO2 NC2
text: S

## RTL8153B-VB-CG
designator U?  (value not drawn)
SPZL001044; 名称: IC; 描述: USB3.0转千兆芯片; 厂商: REALTEK(瑞昱); 封装: QFN-40-EP(5x5); 工作温度: 0~70℃; 贴片和直插: SMD; SuppliersPartNumber: C2802072; 型号: RTL8153B-VB-CG; 商品编号: SPZL001044
footprint QFN-40_L5.0-W5.0-P0.40-BL-EP3.7
pins: 1 MDIP0, 2 MDIN0, 3 AVDD10, 4 MDIP1, 5 MDIN1, 6 MDIP2, 7 MDIN2, 8 AVDD10, 9 MDIP3, 10 MDIN3, 11 AVDD33, 12 U3SSTXN, 13 U3SSTXP, 14 U3VDD10, 15 U3SSRXN, 16 U3SSRXP, 17 U2DM, 18 U2DP, 19 U2VDD10, 20 AVDD33, 21 VDD5, 22 DVDD10_UPS, 23 DVDD33, 24 EEDO/LED2/SPISDO/LANWAKEB/GPIO, 25 EEDI/SPISDI/ENSWREG, 26 VDDREG33, 27 VDDREG5, 28 REGOUT, 29 GND, 30 EESK/LED1/SPISCK, 31 EECS, 32 LED0/SPICSB, 33 DVDD33, 34 DVDD10, 35 CKXTAL1, 36 CKXTAL2, 37 AVDD10, 38 RSET, 39 AVDD33, 40 AVDD33, 41 EP

## RTL8211F-CG
designator U?
SPZL000719; 名称: IC; 封装: WQFN-40-EP(5x5); 厂商: REALTEK(瑞昱); 贴片和直插: SMD; 工作温度: 0~70℃; 描述: RTL8211F-CG; 商品编号: SPZL000719; SuppliersPartNumber: C187932; 型号: RTL8211F-CG
footprint QFN40P500X500X90_HS-41N (QFN, 40-Leads, Body 5.00x5.00mm, Pitch 0.40mm, Thermal Pad 3.70x3.70mm, IPC Medium Density)
pins: 1 MDI[0]+, 2 MDI[0]-, 3 AVDD10_3 (power), 4 MDI[1]+, 5 MDI[1]-, 6 MDI[2]+, 7 MDI[2]-, 8 AVDD10_2 (power), 9 MDI[3]+, 10 MDI[3]-, 11 AVDD33_2 (power), 12 PHYRSTB, 13 MDC, 14 MDIO, 15 TXD3, 16 TXD2, 17 TXD1, 18 TXD0, 19 TXCTL, 20 TXC, 21 DVDD10 (power), 22 RXD3/PHYAD0, 23 RXD2/PLLOFF, 24 RXD1/TXDLY, 25 RXD0/RXDLY, 26 RXCTL/PHYAD2, 27 RXC/PHYAD1, 28 DVDD_RG, 29 DVDD33 (power), 30 REG_OUT, 31 INTB/PMEB, 32 LED0/CFG_EXT, 33 LED1/CFG_LDO0, 34 LED2/CFG_LDO1, 35 CLKOUT, 36 XTAL_IN, 37 XTAL_OUT/EXT_CLK, 38 AVDD10_1 (power), 39 RSET, 40 AVDD33_1 (power), 41 E_Pad

## SIM卡座 自弹式 MICRO
designator U?, comment 描述: SIM卡座 自弹式 MICRO -40~85℃  (hidden comment: SMC-202-6)
SPZL001068; 名称: SIM卡座; 贴片和直插: SMD; 厂商: XUNPU(讯普); 工作温度: -40~85℃; SuppliersPartNumber: C266634; 封装: SMD; 型号: SMC-202-6; 商品编号: SPZL001068
footprint SIM-SMD_SMC-202-6
pins: 7 GND, 8 GND, 9 GND, 10 GND, C1 VCC, C2 RST, C3 CLK, C5 GND, C6 VPP, C7 IO

## SS32
designator D?, comment 描述: 肖特基二极管 20V 3A 500mV  型号: SS32  (hidden comment: 肖特基二极管)
SPZL000094; 名称: 二极管; 厂商: MDD; 贴片和直插: SMD; 封装: SMA(DO-214AC); 工作温度: -55~125℃; SuppliersPartNumber: C34897; 商品编号: SPZL000094
footprint DO_214AC
pins: 1 A, 2 K

## SY6280AAC
designator U?
SPZL000043; 封装: SOT-23-5; 贴片和直插: SMD; 厂商: silergy(矽力杰); 名称: 电源IC; 描述: 功率电子开关; 工作温度: -40~85℃; SuppliersPartNumber: C55136; 商品编号: SPZL000043; 型号: SY6280AAC
footprint SOT-23-5
pins: 1 VOUT, 2 GND, 3 OCB, 4 EN, 5 IN

## SY8089AAAC
designator U?
SPZL000040; 名称: 电源IC; 封装: SOT-23-5; 厂商: silergy(矽力杰); 贴片和直插: SMD; 描述: DC-DC; 工作温度: -40~85℃; SuppliersPartNumber: C78988; 商品编号: SPZL000040; 型号: SY8089AAAC
footprint SOT-23-5
pins: 1 EN, 2 GND, 3 LX, 4 VIN, 5 FB/OUT
2 alternate drawings of the same symbol

## SY8113BADC
designator U?
SPZL000041; 厂商: silergy(矽力杰); 封装: TSOT-23-6; 贴片和直插: SMD; 名称: 电源IC; 描述: DC-DC; 工作温度: -40~85℃; SuppliersPartNumber: C78989; 商品编号: SPZL000041; 型号: SY8113BADC
footprint sot23-6
pins: 1 BS, 2 GND, 3 FB, 4 EN, 5 IN, 6 LX

## TEST-DOT
designator T?  (value not drawn)
footprint PAD-25/40
pins: 1

## TF卡座 自弹式
designator J?, comment 描述: TF卡座 自弹式  (hidden comment: TF-01A)
SPZL000144; 名称: TF卡座; 厂商: 韩国韩荣; 贴片和直插: SMD; 工作温度: -40~85℃; SuppliersPartNumber: C91145; 封装: SMD; 型号: TF-01A; 商品编号: SPZL000144
footprint TF
pins: 1 DATA2, 2 CD/DATA3, 3 CMD, 4 VDD, 5 CLK, 6 VSS, 7 DATA0, 8 DATA1, 9 Card Detection N, 10 Card Detection P, 11 FGND, 12 FGND, 13 FGND

## TMI3255S
designator U?
SPZL001130; 厂商: Toll(拓尔微); 封装: SOT23-6; 贴片和直插: SMD; 名称: 电源IC; 描述: DC-DC; 工作温度: -40℃~125℃; 商品编号: SPZL001130; 型号: TMI3255S
footprint SOT23-6
pins: 1 FB, 2 EN, 3 GND, 4 VIN, 5 SW, 6 BOOT

## TPL740F12-5TR
designator U?
SPZL000632; 名称: 电源IC; 封装: SOT-23-5; 厂商: 3PEAK; 贴片和直插: SMD; 描述: LDO; 工作温度: -40~85℃; SuppliersPartNumber: *; 商品编号: SPZL000632; 型号: TPL740F12-5TR
footprint SOT-23-5
pins: 1 IN, 2 GND, 3 EN, 4 BP, 5 OUT

## TPL740F18-5TR
designator U?
SPZL000630; 名称: 电源IC; 封装: SOT-23-5; 厂商: 3PEAK; 贴片和直插: SMD; 描述: LDO; 工作温度: -40~85℃; SuppliersPartNumber: *; 商品编号: SPZL000630; 型号: TPL740F18-5TR
footprint SOT-23-5
pins: 1 IN, 2 GND, 3 EN, 4 BP, 5 OUT

## TPL740F28-5TR
designator U?
SPZL000631; 名称: 电源IC; 封装: SOT-23-5; 厂商: 3PEAK; 贴片和直插: SMD; 描述: LDO; 工作温度: -40~85℃; SuppliersPartNumber: *; 商品编号: SPZL000631; 型号: TPL740F28-5TR
footprint SOT-23-5
pins: 1 IN, 2 GND, 3 EN, 4 BP, 5 OUT

## TPL740F33-5TR
designator U?
SPZL000784; 名称: 电源IC; 封装: SOT-23-5; 厂商: 3PEAK; 贴片和直插: SMD; 描述: LDO; 工作温度: -40~85℃; SuppliersPartNumber: *; 商品编号: SPZL000784; 型号: TPL740F33-5TR
footprint SOT-23-5
pins: 1 IN, 2 GND, 3 EN, 4 BP, 5 OUT

## TPV6823V-TR
designator U?
SPZL000751; 名称: IC; 封装: SOT23-5; 厂商: 3PEAK; 贴片和直插: SMD; 描述: 1.8V看门狗芯片; 工作温度: -40~125℃; 商品编号: SPZL000751; 型号: TPV6823V-TR
footprint SOT-23-5
pins: 1 ~{RESET}, 2 GND, 3 ~{MR}, 4 WDI, 5 VCC

## TVS BV-SMBT-20CA
designator D?, comment BV-SMBT-20CA
SPZL000611; 名称: TVS; 封装: SMB-T; 贴片和直插: SMD; 厂商: Bencent(槟城); 描述: Cj=2500pF; 工作温度: -40~125℃; 商品编号: SPZL000611; 型号: BV-SMBT-20CA
footprint SMB-T_L5.4-W3.3-BI
pins: 1, 2, 3

## TVS BV-SR05
designator D?, comment BV-SR05
SPZL000616; 名称: TVS; 封装: SOT-143; 厂商: Bencent(槟城); 贴片和直插: SMD; 描述: Vdrm=5V Cj=0.85pF; 工作温度: -40~125℃; SuppliersPartNumber: C413946; 商品编号: SPZL000616; 型号: BV-SR05
footprint SOT-143
pins: 1, 2, 3, 4

## TVS ESD5341N-2/TR
designator D?, comment ESD5341N-2/TR
SPZL000253; 名称: TVS; 封装: DFN1006-2L; 贴片和直插: SMD; 厂商: WILLSEMI(韦尔); 描述: Vdrm=5V Cj=1pF; 工作温度: -40~85℃; 商品编号: SPZL000253; SuppliersPartNumber: C239773; 型号: ESD5341N-2/TR
footprint DFN1006-2L
pins: 1, 2

## TVS ESD5471X-2/TR
designator D?, comment ESD5471X-2/TR
SPZL000254; 名称: TVS; 贴片和直插: SMD; 封装: FBP-02C; 厂商: WillSemi(韦尔半导体); 描述: Vdrm=5V Cj=9pF; 工作温度: -40~85℃; SuppliersPartNumber: C239631; 商品编号: SPZL000254; 型号: ESD5471X-2/TR
footprint FBP-02C
pins: 1, 2

## USB2.0 Type-A 侧插 单层
designator USB?, comment 描述: USB2.0 Type-A 侧插 单层  (hidden comment: U221-041N-1BU07-S1)
SPZL001070; 厂商: XKB Connection(中国星坤); 封装: 插件; 名称: USB连接器; 贴片和直插: THT; 工作温度: -45~85℃; 型号: U221-041N-1BU07-S1; 商品编号: SPZL001070; SuppliersPartNumber: C2682184
footprint MINI-USB-SMD_U221-041N-1BU07-S1
pins: 1, 2, 3, 4, 5
text: 4:GND; 3:D+; 2:D-; 1:5V

## USB2.0 Type-C 卧贴 单层
designator USB?
SPZL000132; 厂商: 韩国韩荣; 名称: USB连接器; 封装: SMD; 型号: TYPE-C-31-M-12; 贴片和直插: SMD; 商品编号: SPZL000132; SuppliersPartNumber: C165948; 描述: USB2.0 Type-C 卧贴 单层
footprint USB-TYPE-C_16PIN-MALE-TYPE-C-31-M-12
pins: 17 EH, 18 EH, 19 EH, 20 EH, A1 GND, A4 VBUS, A5 CC1, A6 DP1, A7 DN1, A8 SBU1, A9 VBUS, A12 GND, B1 GND, B4 VBUS, B5 CC2, B6 DP2, B7 DN2, B8 SBU2, B9 VBUS, B12 GND

## USB3.0 Type-A 侧插 单层
designator J?, comment 描述: USB3.0 Type-A 侧插 单层  (hidden comment: U231-091N-4BLCC14-S5)
SPZL001065; 名称: USB连接器; 封装: THT; 厂商: XKB Connectivity(中国星坤); 工作温度: -55~85℃; 贴片和直插: THT; SuppliersPartNumber: C388644; 型号: U231-091N-4BLCC14-S5; 商品编号: SPZL001065
footprint USB3.0-A-TH_U231-091N-4BLCC14-S-5
pins: 1 VBUS, 2 D-, 3 D+, 4 GND, 5 RX-, 6 RX+, 7 GND, 8 TX-, 9 TX+, 10 SHELL1
text: USB3.0

## W25Q32JVSSIQ
designator U?  (no BOM)
SPZL001045; 名称: IC; 描述: NOR FLASH; 厂商: WINBOND(华邦); 封装: SOIC-8; 贴片和直插: SMD; 工作温度: -40~85℃; 商品编号: SPZL001045; SuppliersPartNumber: C179173; 型号: W25Q32JVSSIQ
footprint SOIC-8-208mil
pins: 1 CS#, 2 DO(IO1), 3 WP#(IO2), 4 GND, 5 DI(IO0), 6 CLK, 7 HOLD, 8 VCC

## 共模电感 PCMF212L900MFR
designator L?, comment PCMF212L900MFR  (no BOM)
SPZL001149; 名称: 共模电感; 封装: SMD2012; 厂商: 玛珂斯科技; 贴片和直插: SMD; 描述: 90Ω @100MHz 400mA; 工作温度: -40~85℃; 商品编号: SPZL001149; 型号: PCMF212L900MFR
footprint SMD2012 (Footprint not found)
pins: 1, 2, 3, 4

## 拨码开关 1P P=2.54mm
designator S?, comment 描述: 拨码开关 1P P=2.54mm  (hidden comment: EM-01KP)
SPZL000149; 名称: 拨码开关; 贴片和直插: SMD; 厂商: 韩国韩荣; 封装: SMD,2.5x6mm; 工作温度: -20~70℃; SuppliersPartNumber: C129077; 型号: EM-01KP; 商品编号: SPZL000149
footprint EM-01KP
pins: 1, 2

## 排针 H6mm 2.54mm 1x4P 立式
designator P?, comment 描述: H6mm 2.54mm 1x4P 立式  (hidden comment: 2.54-1x4P直针)
SPZL001463; 名称: 排针; 贴片和直插: THT; 厂商: XFCN(兴飞); 封装: 插件,P=2.54mm; 工作温度: -40~105℃; 型号: 2.54-1x4P直针; 商品编号: SPZL001463; SuppliersPartNumber: C2691448
footprint HDR-TH_4P-P2.54-V-M
pins: 1, 2, 3, 4

## 排针 H6mm 2.54mm 2x20P 立式
designator P?, comment 描述: H6mm 2.54mm 2x20P 立式  (hidden comment: B-2100S40P-B110)
SPZL000147; 名称: 排针; 封装: 插件,P=2.54mm; 贴片和直插: THT; 厂商: Ckmtw(灿科盟); 工作温度: -40~105℃; 型号: B-2100S40P-B110; 商品编号: SPZL000147; SuppliersPartNumber: C124383
footprint HDR-TH_40P-P2.54-V-M-R2-C20-S2.54
pins: 1, 2, 3, 4, 5, 6, 7, 8, 9, 10, 11, 12, 13, 14, 15, 16, 17, 18, 19, 20, 21, 22, 23, 24, 25, 26, 27, 28, 29, 30, 31, 32, 33, 34, 35, 36, 37, 38, 39, 40

## 放电管 BS4200N-2C
designator D?, comment BS4200N-2C
SPZL000612; 名称: 放电管; 封装: SMB-T; 贴片和直插: SMD; 厂商: Bencent(槟城); 工作温度: -40~125℃; 商品编号: SPZL000612; 型号: BS4200N-2C
footprint SMB-T_L5.4-W3.3-BI
pins: 1, 2, 3

## 电解电容 100uF ±20% 10V
designator C?, comment 描述: 100uF ±20% 10V  (hidden comment: RVT1A101M0505)
SPZL000265; 名称: 电解电容; 厂商: ROQANG(容强); 贴片和直插: SMD; 封装: SMD,D5xL5.4mm; 工作温度: -55~105℃; SuppliersPartNumber: C72473; 型号: RVT1A101M0505; 商品编号: SPZL000265
footprint SMD,D5xL5.4mm (SMD,5x5.4mm)
pins: 1, 2
2 alternate drawings of the same symbol

## 电解电容 100uF ±20% 25V
designator C?, comment 描述: 100uF ±20% 25V  (hidden comment: RVT1E101M0607)
SPZL000519; 名称: 电解电容; 厂商: ROQANG(容强); 贴片和直插: SMD; 封装: SMD,D6.3xL7.7mm; 工作温度: -45~105℃; SuppliersPartNumber: C72477; 型号: RVT1E101M0607; 商品编号: SPZL000519
footprint SMD,D6.3xL7.7mm
pins: 1, 2
2 alternate drawings of the same symbol

## 红色 0603
designator D?
SPZL000214; 厂商: EVERLIGHT(台湾亿光); 封装: 0603; 贴片和直插: SMD; 型号: 19-217/R6C-AL1M2VY/3T; 名称: LED; 工作温度: -40~85℃; SuppliersPartNumber: C72044; 商品编号: SPZL000214; 描述: 红色 0603
footprint 0603_LED_S1
pins: A, K

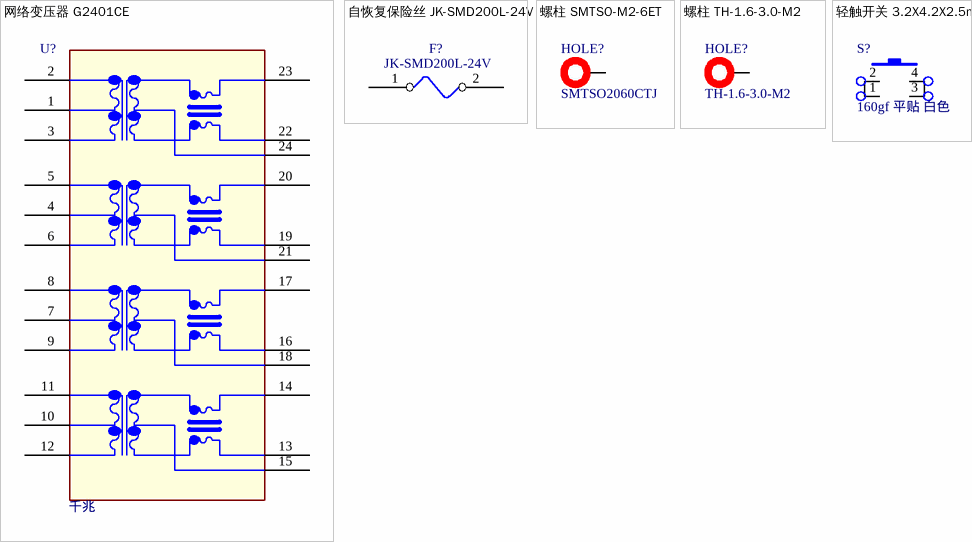
[diagram p3: symbols 网络变压器 G2401CE to 轻触开关 3.2X4.2X2.5mm]

## 网络变压器 G2401CE
designator U?, comment 描述: 千兆  (hidden comment: G2401CE)
SPZL000720; 封装: SMD; 名称: 网络变压器; 厂商: Mentech(铭普光磁); 工作温度: -40~+85℃; 型号: G2401CE; 贴片和直插: SMD; SuppliersPartNumber: C2904710; 商品编号: SPZL000720
footprint SMD-24_L15.1-W7.1-P1.00-LS10.0-BL
pins: 1, 2, 3, 4, 5, 6, 7, 8, 9, 10, 11, 12, 13, 14, 15, 16, 17, 18, 19, 20, 21, 22, 23, 24

## 自恢复保险丝 JK-SMD200L-24V
designator F?, comment JK-SMD200L-24V
SPZL000105; 厂商: JK(金科); 封装: 2920; 名称: 自恢复保险丝; 贴片和直插: SMD; 描述: 2A/24V; 工作温度: -40~85℃; SuppliersPartNumber: C692154; 商品编号: SPZL000105; 型号: JK-SMD200L-24V
footprint 2920
pins: 1, 2

## 螺柱 SMTSO-M2-6ET
designator HOLE?, comment SMTSO2060CTJ
SPZL000166; 名称: 螺柱; 封装: SMD; 厂商: 雄和远景; 描述: 螺丝孔径2mm 高6mm; 贴片和直插: SMD; SuppliersPartNumber: *; 工作温度: *; 型号: SMTSO2060CTJ; 商品编号: SPZL000166
footprint Mou Hole-373D600H-SMD
pins: 1

## 螺柱 TH-1.6-3.0-M2
designator HOLE?, comment TH-1.6-3.0-M2
SPZL000886; 名称: 螺柱; 封装: SMD; 厂商: 雄和远景; 描述: 核心板螺柱 M2.5; 贴片和直插: SMD; SuppliersPartNumber: *; 商品编号: SPZL000886; 工作温度: *; 型号: TH-1.6-3.0-M2
footprint TH-1.6-3.0-M2 (Footprint not found)
pins: 1

## 轻触开关 3.2X4.2X2.5mm
designator S?, comment 描述: 160gf 平贴 白色  (hidden comment: TS-1145A-B-A)
SPZL000455; 名称: 轻触开关; 贴片和直插: SMD; 厂商: XKB Connectivity; 封装: SMD 3.2X4.2X2.5mm; 工作温度: -30~85℃; SuppliersPartNumber: C318904; 型号: TS-1145A-B-A; 商品编号: SPZL000455
footprint SW-SMD_4P-L4.2-W3.2-P2.15-LS5.2
pins: 1, 2, 3, 4